# EAGLE library part 74LVX4245MTCX (library 74LVX4245MTCX)
8-Bit Dual Supply Translating Transceiver with 3-STATE Outputs
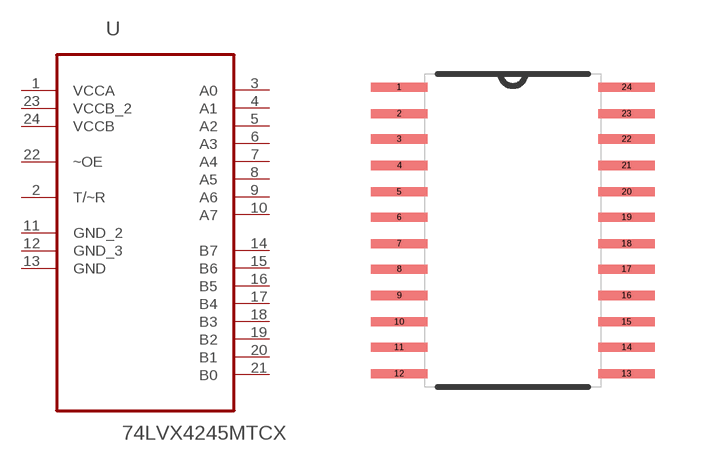
[diagram p0: symbol with the pads of SOP65P640X90-24N; footprint SOP65P640X90-24N]

Designator prefix U

## 74LVX4245MTCX (Availability: Unavailable; Description: 74LVX Series 5.5V 8-Bit 3-State Dual Supply Translating Transceiver-TSSOP-24; MF: ON; MP: 74LVX4245MTCX; Package: TSSOP-24 Fairchild Semiconductor; Price: None)  [SOP65P640X90-24N]
1  VCCA  pwr
2  T/~R  in
3  A0  out
4  A1  out
5  A2  out
6  A3  out
7  A4  out
8  A5  out
9  A6  out
10  A7  out
11  GND_2  pas
12  GND_3  pas
13  GND  pas
14  B7  out
15  B6  out
16  B5  out
17  B4  out
18  B3  out
19  B2  out
20  B1  out
21  B0  out
22  ~OE  in
23  VCCB_2  pwr
24  VCCB  pwr

## Footprint SOP65P640X90-24N (pad centres in mm)
smd 1.422 x 0.229: 1 -2.845,3.581; 2 -2.845,2.921; 3 -2.845,2.286; 4 -2.845,1.626; 5 -2.845,0.965; 6 -2.845,0.33; 7 -2.845,-0.33; 8 -2.845,-0.965; 9 -2.845,-1.626; 10 -2.845,-2.286; 11 -2.845,-2.921; 12 -2.845,-3.581; 13 2.845,-3.581; 14 2.845,-2.921; 15 2.845,-2.286; 16 2.845,-1.626; 17 2.845,-0.965; 18 2.845,-0.33; 19 2.845,0.33; 20 2.845,0.965; 21 2.845,1.626; 22 2.845,2.286; 23 2.845,2.921; 24 2.845,3.581